# Altium footprint library SMD Active.PcbLib: 72 footprints (part 8 of 8)
Each footprint in its own frame and in the unit in brackets; x right, y up, seen from the top. Pads: shape width x height; smd on the part's side, far side on the other; paste and mask are expansions set on the pad; w line width, h text height; cw(c..) or ccw(c..) is an arc to the next point about the centre after c.
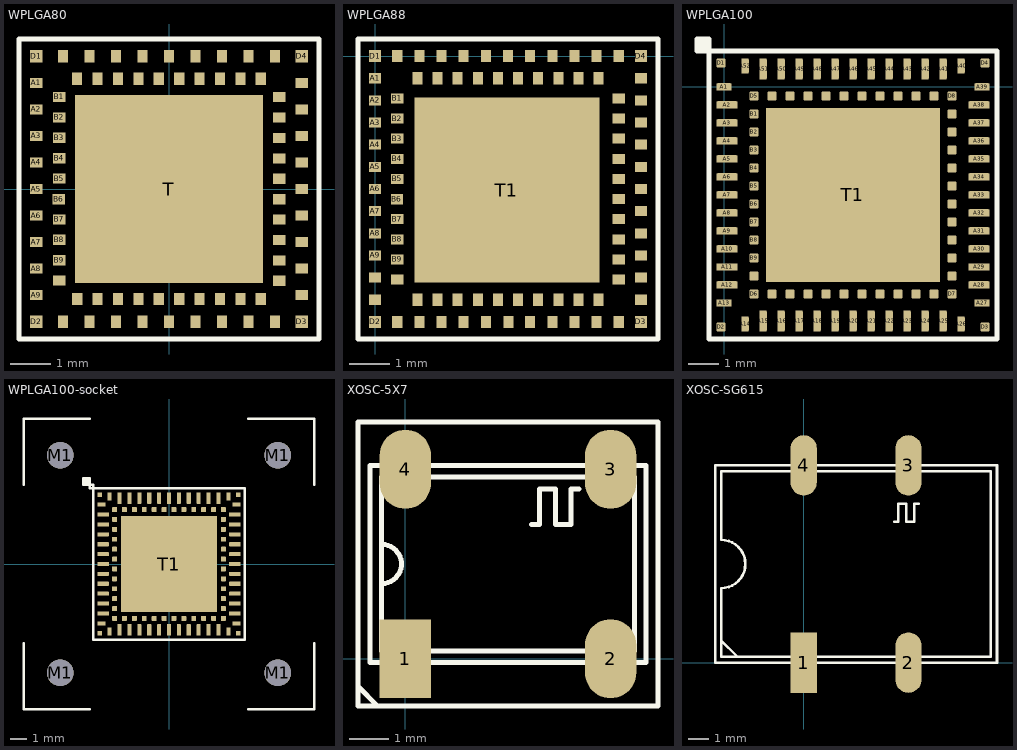
[diagram p7: the footprints below, top view; thin cyan lines are the x and y axes]

## WPLGA80 [mm]
pads (81):
  rect 0.3x0.25 smd: A1(-3.25,2.6) A2(-3.25,1.95) A3(-3.25,1.3) A4(-3.25,0.65) A5(-3.25,0) A6(-3.25,-0.65) A7(-3.25,-1.3) A8(-3.25,-1.95) A9(-3.25,-2.6) A19(3.25,-2.6) A20(3.25,-1.95) A21(3.25,-1.3) A22(3.25,-0.65) A23(3.25,0) A24(3.25,0.65) A25(3.25,1.3) A26(3.25,1.95) A27(3.25,2.6) B1(-2.689,2.255) B2(-2.689,1.755) B3(-2.689,1.255) B4(-2.689,0.755) B5(-2.689,0.255) B6(-2.7,-0.25) B7(-2.689,-0.745) B8(-2.689,-1.245) B9(-2.689,-1.745) B10(-2.689,-2.245) B21(2.7,-2.249) B22(2.7,-1.749) B23(2.7,-1.249) B24(2.7,-0.749) B25(2.7,-0.249) B26(2.7,0.251) B27(2.7,0.751) B28(2.7,1.251) B29(2.7,1.751) B30(2.7,2.251)
  rect 0.25x0.3 smd: A10(-2.6,-3.25) A11(-1.95,-3.25) A12(-1.3,-3.25) A13(-0.65,-3.25) A14(0,-3.25) A15(0.65,-3.25) A16(1.3,-3.25) A17(1.95,-3.25) A18(2.6,-3.25) A28(2.6,3.25) A29(1.95,3.25) A30(1.3,3.25) A31(0.65,3.25) A32(0,3.25) A33(-0.65,3.25) A34(-1.3,3.25) A35(-1.95,3.25) A36(-2.6,3.25) B11(-2.25,-2.698) B12(-1.75,-2.698) B13(-1.25,-2.698) B14(-0.75,-2.698) B15(-0.25,-2.698) B16(0.25,-2.698) B17(0.75,-2.698) B18(1.25,-2.698) B19(1.75,-2.698) B20(2.25,-2.698) B31(2.249,2.701) B32(1.749,2.701) B33(1.249,2.701) B34(0.749,2.701) B35(0.249,2.701) B36(-0.251,2.701) B37(-0.751,2.701) B38(-1.251,2.701) B39(-1.751,2.701) B40(-2.251,2.701)
  rect 0.3x0.3 smd: D1(-3.25,3.25) D2(-3.25,-3.25) D3(3.25,-3.25) D4(3.25,3.25)
  rect 4.6x4.6 smd: T(0,0)
Top Layer:
  lines w0.102: 3.25,3.25 3.25,3.25
Top Overlay:
  lines w0.127: -3.675,-3.675 3.675,-3.675 3.675,3.675 -3.675,3.675 -3.675,-3.675
3D body: height 1.04, standoff 1.02, extent -1.956,0.533 1.778,2.184
3D body: height 1.04, standoff 1.02, extent -1.016,0.279 0.584,1.676
3D body: height 1.04, standoff 1.02, extent 0.635,0.279 1.6,1.676
3D body: height 1.02, standoff 0, extent -3.727,-3.723 3.723,3.727
3D body: height 1.04, standoff 1.02, extent -3.727,3.022 -3.01,3.727

## WPLGA88 [mm]
pads (89):
  rect 0.3x0.25 smd: A1(0,-0.55) A2(0,-1.1) A3(0,-1.65) A4(0,-2.2) A5(0,-2.75) A6(0,-3.3) A7(0,-3.85) A8(0,-4.4) A9(0,-4.95) A10(0,-5.5) A11(0,-6.05) A23(6.6,-6.05) A24(6.6,-5.5) A25(6.6,-4.95) A26(6.6,-4.4) A27(6.6,-3.85) A28(6.6,-3.3) A29(6.6,-2.75) A30(6.6,-2.2) A31(6.6,-1.65) A32(6.6,-1.1) A33(6.6,-0.55) B1(0.55,-1.05) B2(0.55,-1.55) B3(0.55,-2.05) B4(0.55,-2.55) B5(0.55,-3.05) B6(0.539,-3.555) B7(0.55,-4.05) B8(0.55,-4.55) B9(0.55,-5.05) B10(0.55,-5.55) B21(6.05,-5.55) B22(6.05,-5.05) B23(6.05,-4.55) B24(6.05,-4.05) B25(6.05,-3.55) B26(6.05,-3.05) B27(6.05,-2.55) B28(6.05,-2.05) B29(6.05,-1.55) B30(6.05,-1.05)
  rect 0.25x0.3 smd: A12(0.55,-6.6) A13(1.1,-6.6) A14(1.65,-6.6) A15(2.2,-6.6) A16(2.75,-6.6) A17(3.313,-6.604) A18(3.85,-6.6) A19(4.4,-6.6) A20(4.95,-6.6) A21(5.5,-6.6) A22(6.05,-6.6) A34(6.05,0) A35(5.5,0) A36(4.95,0) A37(4.4,0) A38(3.85,0) A39(3.3,0) A40(2.75,0) A41(2.2,0) A42(1.65,0) A43(1.1,0) A44(0.55,0) B11(1.05,-6.05) B12(1.55,-6.05) B13(2.05,-6.05) B14(2.55,-6.05) B15(3.05,-6.05) B16(3.55,-6.05) B17(4.05,-6.05) B18(4.55,-6.05) B19(5.05,-6.05) B20(5.55,-6.05) B31(5.55,-0.55) B32(5.05,-0.55) B33(4.55,-0.55) B34(4.05,-0.55) B35(3.55,-0.55) B36(3.05,-0.55) B37(2.55,-0.55) B38(2.05,-0.55) B39(1.55,-0.55) B40(1.05,-0.55)
  rect 0.3x0.3 smd: D1(0,0) D2(0,-6.6) D3(6.6,-6.6) D4(6.6,0)
  rect 4.6x4.6 smd: T1(3.275,-3.325)
Top Overlay:
  lines w0.127: -0.425,-7.025 -0.425,0.425 7.025,0.425 7.025,-7.025 -0.425,-7.025
3D body: height 1.04, standoff 1.02, extent -0.425,-0.28 0.292,0.425
3D body: height 1.02, standoff 0, extent -0.425,-7.025 7.025,0.425
3D body: height 1.04, standoff 1.02, extent 3.937,-3.023 4.902,-1.626
3D body: height 1.04, standoff 1.02, extent 2.286,-3.023 3.886,-1.626
3D body: height 1.04, standoff 1.02, extent 1.346,-2.769 5.08,-1.118

## WPLGA100 [mm]
pads (101):
  rrect25% 0.5x0.25 smd mask+0.051: A1(0,0) A13(0,-7.2) A27(8.6,-7.2) A39(8.6,0)
  rrect25% 0.7x0.25 smd mask+0.051: A2(0.1,-0.6) A3(0.1,-1.2) A4(0.1,-1.8) A5(0.1,-2.4) A6(0.1,-3) A7(0.1,-3.6) A8(0.1,-4.2) A9(0.1,-4.8) A10(0.1,-5.4) A11(0.1,-6) A12(0.1,-6.6) A28(8.5,-6.6) A29(8.5,-6) A30(8.5,-5.4) A31(8.5,-4.8) A32(8.5,-4.2) A33(8.5,-3.6) A34(8.5,-3) A35(8.5,-2.4) A36(8.5,-1.8) A37(8.5,-1.2) A38(8.5,-0.6)
  rrect25% 0.25x0.5 smd mask+0.051: A14(0.7,-7.9) A26(7.9,-7.9) A40(7.9,0.7) A52(0.7,0.7)
  rrect25% 0.25x0.7 smd mask+0.051: A15(1.3,-7.8) A16(1.9,-7.8) A17(2.5,-7.8) A18(3.1,-7.8) A19(3.7,-7.8) A20(4.3,-7.8) A21(4.9,-7.8) A22(5.5,-7.8) A23(6.1,-7.8) A24(6.7,-7.8) A25(7.3,-7.8) A41(7.3,0.6) A42(6.7,0.6) A43(6.1,0.6) A44(5.5,0.6) A45(4.9,0.6) A46(4.3,0.6) A47(3.7,0.6) A48(3.1,0.6) A49(2.5,0.6) A50(1.9,0.6) A51(1.3,0.6)
  rrect25% 0.3x0.3 smd mask+0.051: B1(1,-0.9) B2(1,-1.5) B3(1,-2.1) B4(1,-2.7) B5(1,-3.3) B6(1,-3.9) B7(1,-4.5) B8(1,-5.1) B9(1,-5.7) B10(1,-6.3) B11(1.6,-6.9) B12(2.2,-6.9) B13(2.8,-6.9) B14(3.4,-6.9) B15(4,-6.9) B16(4.6,-6.9) B17(5.2,-6.9) B18(5.8,-6.9) B19(6.4,-6.9) B20(7,-6.9) B21(7.6,-6.3) B22(7.6,-5.7) B23(7.6,-5.1) B24(7.6,-4.5) B25(7.6,-3.9) B26(7.6,-3.3) B27(7.6,-2.7) B28(7.6,-2.1) B29(7.6,-1.5) B30(7.6,-0.9) B31(7,-0.3) B32(6.4,-0.3) B33(5.8,-0.3) B34(5.2,-0.3) B35(4.6,-0.3) B36(4,-0.3) B37(3.4,-0.3) B38(2.8,-0.3) B39(2.2,-0.3) B40(1.6,-0.3) D1(-0.1,0.8) D2(-0.1,-8) D3(8.7,-8) D4(8.7,0.8) D5(1,-0.3) D6(1,-6.9) D7(7.6,-6.9) D8(7.6,-0.3)
  rect 5.8x5.8 smd: T1(4.3,-3.6)
Top Overlay:
  rectangle: -0.9,1.2 -0.5,1.6
  lines w0.152: -0.5,1.2 9.1,1.2 9.1,-8.4 -0.5,-8.4 -0.5,1.2 ; -0.5,1.2 -0.9,1.2 -0.9,1.6 -0.5,1.6 -0.5,1.2
3D body: height 1.04, standoff 1.02, extent 3.386,-4.423 4.986,-3.026
3D body: height 1.04, standoff 1.02, extent -0.3,0.3 0.417,1.005
3D body: height 1.02, standoff 0.13, extent -0.4,-8.3 9,1.1
3D body: height 1.04, standoff 1.02, extent 5.037,-4.423 6.002,-3.026
3D body: height 1.04, standoff 1.02, extent 2.446,-4.169 6.18,-2.518

## WPLGA100-socket [mm]
pads (105):
  rrect25% 0.5x0.25 smd mask+0.051: A1(-4.1,3.6) A13(-4.1,-3.6) A27(4.1,-3.6) A39(4.1,3.6)
  rrect25% 0.7x0.25 smd mask+0.051: A2(-4,3) A3(-4,2.4) A4(-4,1.8) A5(-4,1.2) A6(-4,0.6) A7(-4,0) A8(-4,-0.6) A9(-4,-1.2) A10(-4,-1.8) A11(-4,-2.4) A12(-4,-3) A28(4,-3) A29(4,-2.4) A30(4,-1.8) A31(4,-1.2) A32(4,-0.6) A33(4,0) A34(4,0.6) A35(4,1.2) A36(4,1.8) A37(4,2.4) A38(4,3)
  rrect25% 0.25x0.5 smd mask+0.051: A14(-3.6,-4.1) A26(3.6,-4.1) A40(3.6,4.1) A52(-3.6,4.1)
  rrect25% 0.25x0.7 smd mask+0.051: A15(-3,-4) A16(-2.4,-4) A17(-1.8,-4) A18(-1.2,-4) A19(-0.6,-4) A20(0,-4) A21(0.6,-4) A22(1.2,-4) A23(1.8,-4) A24(2.4,-4) A25(3,-4) A41(3,4) A42(2.4,4) A43(1.8,4) A44(1.2,4) A45(0.6,4) A46(0,4) A47(-0.6,4) A48(-1.2,4) A49(-1.8,4) A50(-2.4,4) A51(-3,4)
  rrect25% 0.3x0.3 smd mask+0.051: B1(-3.3,2.7) B2(-3.3,2.1) B3(-3.3,1.5) B4(-3.3,0.9) B5(-3.3,0.3) B6(-3.3,-0.3) B7(-3.3,-0.9) B8(-3.3,-1.5) B9(-3.3,-2.1) B10(-3.3,-2.7) B11(-2.7,-3.3) B12(-2.1,-3.3) B13(-1.5,-3.3) B14(-0.9,-3.3) B15(-0.3,-3.3) B16(0.3,-3.3) B17(0.9,-3.3) B18(1.5,-3.3) B19(2.1,-3.3) B20(2.7,-3.3) B21(3.3,-2.7) B22(3.3,-2.1) B23(3.3,-1.5) B24(3.3,-0.9) B25(3.3,-0.3) B26(3.3,0.3) B27(3.3,0.9) B28(3.3,1.5) B29(3.3,2.1) B30(3.3,2.7) B31(2.7,3.3) B32(2.1,3.3) B33(1.5,3.3) B34(0.9,3.3) B35(0.3,3.3) B36(-0.3,3.3) B37(-0.9,3.3) B38(-1.5,3.3) B39(-2.1,3.3) B40(-2.7,3.3) D1(-4.2,4.2) D2(-4.2,-4.2) D3(4.2,-4.2) D4(4.2,4.2) D5(-3.3,3.3) D6(-3.3,-3.3) D7(3.3,-3.3) D8(3.3,3.3)
  round 1.62 hole 1.62 unplated mask+0.051: M1(-6.6,-6.6) M1(-6.6,6.6) M1(6.6,-6.6) M1(6.6,6.6)
  rect 5.8x5.8 smd: T1(0,0)
Top Overlay:
  rectangle: -5.2,4.8 -4.8,5.2
  lines w0.152: -8.8,-4.8 -8.8,-8.8 -4.8,-8.8 ; -8.8,4.8 -8.8,8.8 -4.8,8.8 ; 4.8,-8.8 8.8,-8.8 8.8,-4.8 ; 4.8,8.8 8.8,8.8 8.8,4.8 ; -5.2,4.8 -4.6,4.8 -4.6,-4.6 4.6,-4.6 4.6,4.6 -4.8,4.6 -4.8,5.2 -5.2,5.2 -5.2,4.8
Bottom Overlay:
  circle w0.203: c-6.6,-6.6 r2.5
  circle w0.203: c6.6,-6.6 r2.5
  circle w0.203: c6.6,6.6 r2.5
  circle w0.203: c-6.6,6.6 r2.5
3D body: height 6.01, standoff 6, extent -2.454,5.931 1.28,7.582
3D body: height 6.01, standoff 6, extent 0.137,5.677 1.102,7.074
3D body: height 6.01, standoff 6, extent -1.514,5.677 0.086,7.074
3D body: height 3, standoff 0, extent 4.488,-8.8 8.8,-4.488
3D body: height 3, standoff 0, extent 4.488,4.488 8.8,8.8
3D body: height 3, standoff 0, extent -8.8,4.488 -4.488,8.8
3D body: height 3, standoff 0, extent -8.8,-8.8 -4.488,-4.488
3D body: height 3, standoff 0, extent -7.5,-7.5 7.5,7.5
3D body: height 6, standoff 3, extent -8.8,-8.8 8.8,8.8
3D body: height 3.01, standoff 0, extent -3.504,3.096 -3.096,3.504
3D body: height 3.01, standoff 0, extent -2.904,3.096 -2.496,3.504
3D body: height 3.01, standoff 0, extent -2.304,3.096 -1.896,3.504
3D body: height 3.01, standoff 0, extent -1.704,3.096 -1.296,3.504
3D body: height 3.01, standoff 0, extent -1.104,3.096 -0.696,3.504
3D body: height 3.01, standoff 0, extent -0.504,3.096 -0.096,3.504
3D body: height 3.01, standoff 0, extent 0.096,3.096 0.504,3.504
3D body: height 3.01, standoff 0, extent 0.696,3.096 1.104,3.504
3D body: height 3.01, standoff 0, extent 1.296,3.096 1.704,3.504
3D body: height 3.01, standoff 0, extent 1.896,3.096 2.304,3.504
3D body: height 3.01, standoff 0, extent 2.496,3.096 2.904,3.504
3D body: height 3.01, standoff 0, extent 3.096,3.096 3.504,3.504
3D body: height 3.01, standoff 0, extent 3.096,2.496 3.504,2.904
3D body: height 3.01, standoff 0, extent 3.096,1.896 3.504,2.304
3D body: height 3.01, standoff 0, extent 3.096,1.296 3.504,1.704
3D body: height 3.01, standoff 0, extent 3.096,0.696 3.504,1.104
3D body: height 3.01, standoff 0, extent 3.096,0.096 3.504,0.504
3D body: height 3.01, standoff 0, extent 3.096,-0.504 3.504,-0.096
3D body: height 3.01, standoff 0, extent 3.096,-1.104 3.504,-0.696
3D body: height 3.01, standoff 0, extent 3.096,-1.704 3.504,-1.296
3D body: height 3.01, standoff 0, extent 3.096,-2.304 3.504,-1.896
3D body: height 3.01, standoff 0, extent 3.096,-2.904 3.504,-2.496
3D body: height 3.01, standoff 0, extent 3.096,-3.504 3.504,-3.096
3D body: height 3.01, standoff 0, extent 2.496,-3.504 2.904,-3.096
3D body: height 3.01, standoff 0, extent 1.896,-3.504 2.304,-3.096
3D body: height 3.01, standoff 0, extent 1.296,-3.504 1.704,-3.096
3D body: height 3.01, standoff 0, extent 0.696,-3.504 1.104,-3.096
3D body: height 3.01, standoff 0, extent 0.096,-3.504 0.504,-3.096
3D body: height 3.01, standoff 0, extent -0.504,-3.504 -0.096,-3.096
3D body: height 3.01, standoff 0, extent -1.104,-3.504 -0.696,-3.096
3D body: height 3.01, standoff 0, extent -1.704,-3.504 -1.296,-3.096
3D body: height 3.01, standoff 0, extent -2.304,-3.504 -1.896,-3.096
3D body: height 3.01, standoff 0, extent -2.904,-3.504 -2.496,-3.096
3D body: height 3.01, standoff 0, extent -3.504,-3.504 -3.096,-3.096
3D body: height 3.01, standoff 0, extent -3.504,-2.904 -3.096,-2.496
3D body: height 3.01, standoff 0, extent -3.504,-2.304 -3.096,-1.896
3D body: height 3.01, standoff 0, extent -3.504,-1.704 -3.096,-1.296
3D body: height 3.01, standoff 0, extent -3.504,-1.104 -3.096,-0.696
3D body: height 3.01, standoff 0, extent -3.504,-0.504 -3.096,-0.096
3D body: height 3.01, standoff 0, extent -3.504,0.096 -3.096,0.504
3D body: height 3.01, standoff 0, extent -3.504,0.696 -3.096,1.104
3D body: height 3.01, standoff 0, extent -3.504,1.296 -3.096,1.704
3D body: height 3.01, standoff 0, extent -3.504,1.896 -3.096,2.304
3D body: height 3.01, standoff 0, extent -3.504,2.496 -3.096,2.904
3D body: height 3.01, standoff 0, extent -4.404,3.996 -3.996,4.404
3D body: height 3.01, standoff 0, extent -3.804,3.996 -3.396,4.404
3D body: height 3.01, standoff 0, extent -3.204,3.996 -2.796,4.404
3D body: height 3.01, standoff 0, extent -2.604,3.996 -2.196,4.404
3D body: height 3.01, standoff 0, extent -2.004,3.996 -1.596,4.404
3D body: height 3.01, standoff 0, extent -1.404,3.996 -0.996,4.404
3D body: height 3.01, standoff 0, extent -0.804,3.996 -0.396,4.404
3D body: height 3.01, standoff 0, extent -0.204,3.996 0.204,4.404
3D body: height 3.01, standoff 0, extent 0.396,3.996 0.804,4.404
3D body: height 3.01, standoff 0, extent 0.996,3.996 1.404,4.404
3D body: height 3.01, standoff 0, extent 1.596,3.996 2.004,4.404
3D body: height 3.01, standoff 0, extent 2.196,3.996 2.604,4.404
3D body: height 3.01, standoff 0, extent 2.796,3.996 3.204,4.404
3D body: height 3.01, standoff 0, extent 3.396,3.996 3.804,4.404
3D body: height 3.01, standoff 0, extent -4.404,3.396 -3.996,3.804
3D body: height 3.01, standoff 0, extent -4.404,2.796 -3.996,3.204
3D body: height 3.01, standoff 0, extent -4.404,2.196 -3.996,2.604
3D body: height 3.01, standoff 0, extent -4.404,1.596 -3.996,2.004
3D body: height 3.01, standoff 0, extent -4.404,0.996 -3.996,1.404
3D body: height 3.01, standoff 0, extent -4.404,0.396 -3.996,0.804
3D body: height 3.01, standoff 0, extent -4.404,-0.204 -3.996,0.204
3D body: height 3.01, standoff 0, extent -4.404,-0.804 -3.996,-0.396
3D body: height 3.01, standoff 0, extent -4.404,-1.404 -3.996,-0.996
3D body: height 3.01, standoff 0, extent -4.404,-2.004 -3.996,-1.596
3D body: height 3.01, standoff 0, extent 3.996,3.996 4.404,4.404
3D body: height 3.01, standoff 0, extent 3.996,3.396 4.404,3.804
3D body: height 3.01, standoff 0, extent 3.996,2.796 4.404,3.204
3D body: height 3.01, standoff 0, extent 3.996,2.196 4.404,2.604
3D body: height 3.01, standoff 0, extent 3.996,1.596 4.404,2.004
3D body: height 3.01, standoff 0, extent 3.996,0.996 4.404,1.404
3D body: height 3.01, standoff 0, extent 3.996,0.396 4.404,0.804
3D body: height 3.01, standoff 0, extent 3.996,-0.204 4.404,0.204
3D body: height 3.01, standoff 0, extent 3.996,-0.804 4.404,-0.396
3D body: height 3.01, standoff 0, extent 3.996,-1.404 4.404,-0.996
3D body: height 3.01, standoff 0, extent 3.996,-2.004 4.404,-1.596
3D body: height 3.01, standoff 0, extent 3.996,-2.604 4.404,-2.196
3D body: height 3.01, standoff 0, extent 3.996,-3.204 4.404,-2.796
3D body: height 3.01, standoff 0, extent 3.996,-3.804 4.404,-3.396
3D body: height 3.01, standoff 0, extent 3.996,-4.404 4.404,-3.996
3D body: height 3.01, standoff 0, extent 3.396,-4.404 3.804,-3.996
3D body: height 3.01, standoff 0, extent 2.796,-4.404 3.204,-3.996
3D body: height 3.01, standoff 0, extent 2.196,-4.404 2.604,-3.996
3D body: height 3.01, standoff 0, extent 1.596,-4.404 2.004,-3.996
3D body: height 3.01, standoff 0, extent 0.996,-4.404 1.404,-3.996
3D body: height 3.01, standoff 0, extent 0.396,-4.404 0.804,-3.996
3D body: height 3.01, standoff 0, extent -0.204,-4.404 0.204,-3.996
3D body: height 3.01, standoff 0, extent -0.804,-4.404 -0.396,-3.996
3D body: height 3.01, standoff 0, extent -1.404,-4.404 -0.996,-3.996
3D body: height 3.01, standoff 0, extent -2.004,-4.404 -1.596,-3.996
3D body: height 3.01, standoff 0, extent -2.604,-4.404 -2.196,-3.996
3D body: height 3.01, standoff 0, extent -3.204,-4.404 -2.796,-3.996
3D body: height 3.01, standoff 0, extent -3.804,-4.404 -3.396,-3.996
3D body: height 3.01, standoff 0, extent -4.404,-4.404 -3.996,-3.996
3D body: height 3.01, standoff 0, extent -4.404,-3.804 -3.996,-3.396
3D body: height 3.01, standoff 0, extent -4.404,-3.204 -3.996,-2.796
3D body: height 3.01, standoff 0, extent -4.404,-2.604 -3.996,-2.196
3D body: height 3.01, standoff 0, extent -2.11,-2.11 2.11,2.11
3D body: height 3.01, standoff 0, extent -2.604,1.596 -2.196,2.004
3D body: height 3.01, standoff 0, extent -2.004,2.196 -1.596,2.604
3D body: height 3.01, standoff 0, extent 1.596,2.196 2.004,2.604
3D body: height 3.01, standoff 0, extent 2.196,1.596 2.604,2.004
3D body: height 3.01, standoff 0, extent 2.196,-2.004 2.604,-1.596
3D body: height 3.01, standoff 0, extent 1.596,-2.604 2.004,-2.196
3D body: height 3.01, standoff 0, extent -2.004,-2.604 -1.596,-2.196
3D body: height 3.01, standoff 0, extent -2.604,-2.004 -2.196,-1.596

## XOSC-5X7 [mm]
pads (4):
  rect 1.3x2 smd: 1(0,0)
  oval 1.3x2 smd: 2(5.2,0) 3(5.2,4.8) 4(0,4.8)
Top Overlay:
  lines w0.127: -1.2,-0.9 -1.2,-0.7 -0.7,-1.2 -0.6,-1.2 ; -0.6,1.9 ccw(c-0.6,2.4) -0.6,2.9 ; 3.2,3.4 3.4,3.4 3.4,4.3 3.8,4.3 3.8,3.4 4.2,3.4 4.2,4.3 4.4,4.3 ; -1.2,-1.2 -1.2,6 6.4,6 6.4,-1.2 3.5,-1.2 -1.2,-1.2 ; -0.9,-0.1 6.1,-0.1 6.1,4.9 -0.9,4.9 -0.9,-0.1 ; -0.6,0.2 5.8,0.2 5.8,4.6 -0.6,4.6 -0.6,0.2
3D body: height 1.27, standoff 0, extent -0.914,-0.076 6.096,4.877
3D body: height 1.3, standoff 0, extent 4.737,4.508 5.651,4.889
3D body: height 1.3, standoff 0, extent -0.463,4.508 0.452,4.889
3D body: height 1.3, standoff 0, extent -0.452,-0.09 0.463,0.635
3D body: height 1.3, standoff 0, extent 4.748,-0.089 5.663,0.292
3D body: height 1.3, standoff 1.27, extent -0.508,0.381 5.715,4.445
3D body: height 2.03, standoff 1.3, extent -0.391,0.498 5.598,4.328

## XOSC-SG615 [mm]
pads (4):
  rect 1.3x3 smd: 1(0,0)
  oval 1.3x3 smd: 2(5.2,0) 3(5.2,9.8) 4(0,9.8)
Top Overlay:
  lines w0.127: -4.1,1.1 -3.3,0.3 ; 4.5,7 4.7,7 4.7,7.9 5.1,7.9 5.1,7 5.5,7 5.5,7.9 5.7,7.9 ; -4.4,0 -4.4,9.8 9.6,9.8 9.6,0 -4.4,0 ; -4.1,0.3 9.3,0.3 9.3,9.5 -4.1,9.5 -4.1,6.1 cw(c-4.1,4.9) -4.1,3.7 -4.1,0.3